# Altium footprint library 471.PcbLib: 1 footprints
Each footprint in its own frame and in the unit in brackets; x right, y up, seen from the top. Pads: shape width x height; smd on the part's side, far side on the other; paste and mask are expansions set on the pad; w line width, h text height; cw(c..) or ccw(c..) is an arc to the next point about the centre after c.
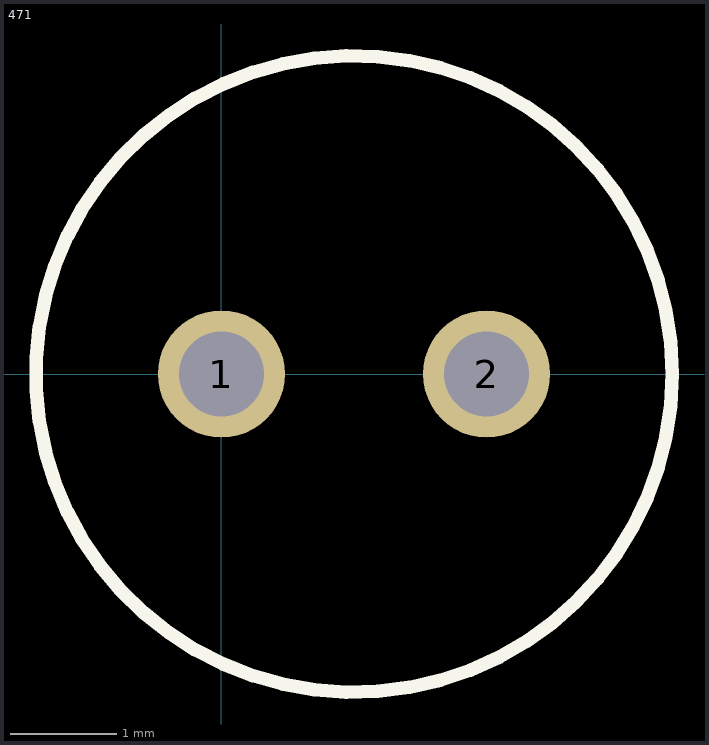
[diagram p0: the footprint, top view; thin cyan lines are the x and y axes]

## 471 [mm]
pads (2):
  round 1.2 hole 0.8: 1(0,0) 2(2.5,0)
Top Overlay:
  circle w0.127: c1.25,0 r3
3D body: height 8.5, standoff 0, extent -1.706,-2.994 4.27,2.994
3D body: height 0, standoff -3.5, extent -0.595,-0.599 0.6,0.599
3D body: height 0, standoff -3.5, extent 1.905,-0.599 3.1,0.599